# EAGLE library part SN74LVC2G53DCUR (library SN74LVC2G53DCUR)
Single Pole, Double-Throw (SPDT) Analog Switch or 2:1 Analog Multiplexer/Demultiplexer Source: Datasheet <http://www.ti.com/lit/gpn/sn74lvc2g53>
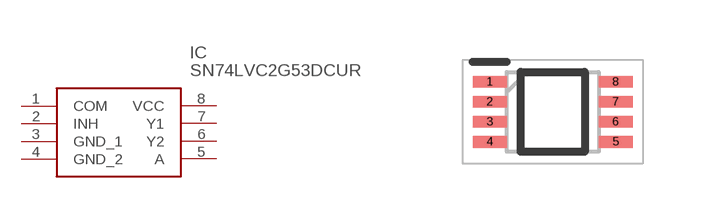
[diagram p0: symbol with the pads of SOP50P310X90-8N; footprint SOP50P310X90-8N]

Designator prefix IC

## SN74LVC2G53DCUR (Description: Single Pole, Double-Throw (SPDT) Analog Switch or 2:1 Analog Multiplexer/Demultiplexer; Height: 0.9mm; Manufacturer_Name: Texas Instruments; Manufacturer_Part_Number: SN74LVC2G53DCUR; Mouser_Part_Number: 595-SN74LVC2G53DCUR; Mouser_Price-Stock: https://www.mouser.co.uk/ProductDetail/Texas-Instruments/SN74LVC2G53DCUR?qs=B7lSdIxWQklQg3lKHael0g%3D%3D)  [SOP50P310X90-8N]
1  COM
2  INH
3  GND_1
4  GND_2
5  A
6  Y2
7  Y1
8  VCC

## Footprint SOP50P310X90-8N (pad centres in mm)
SN74LVC2G53DCUR-1
smd 0.85 x 0.3: 1 -1.575,0.75; 2 -1.575,0.25; 3 -1.575,-0.25; 4 -1.575,-0.75; 5 1.575,-0.75; 6 1.575,-0.25; 7 1.575,0.25; 8 1.575,0.75